# Altium footprint library Transistors.PcbLib: 6 footprints
Each footprint in its own frame and in the unit in brackets; x right, y up, seen from the top. Pads: shape width x height; smd on the part's side, far side on the other; paste and mask are expansions set on the pad; w line width, h text height; cw(c..) or ccw(c..) is an arc to the next point about the centre after c.
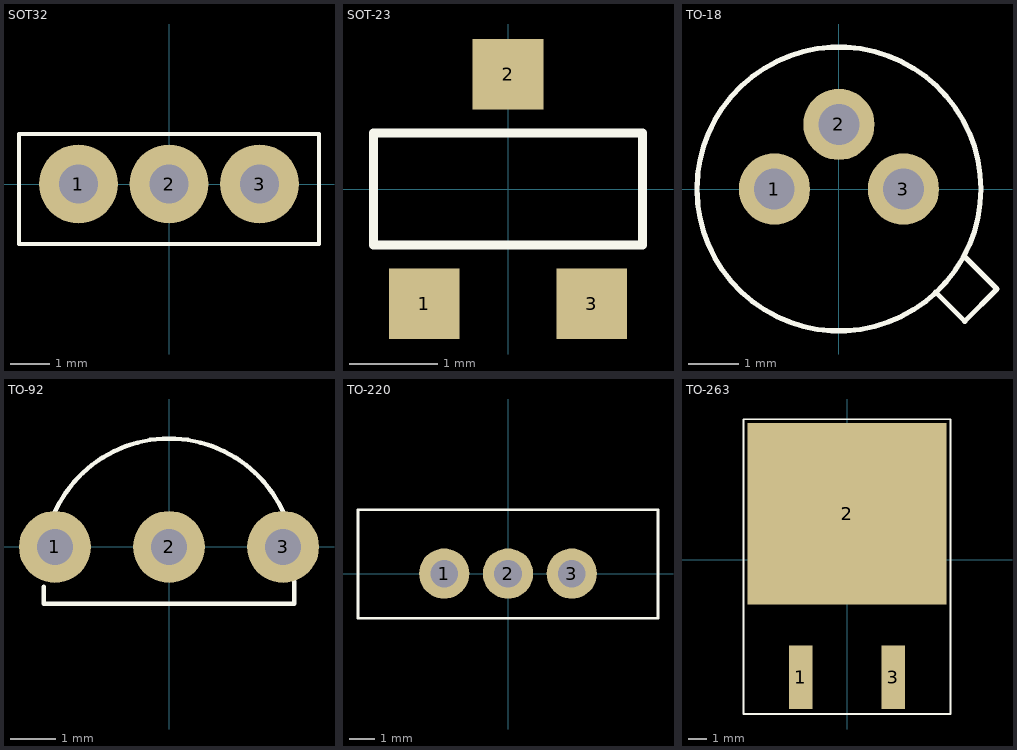
[diagram p0: the footprints below, top view; thin cyan lines are the x and y axes]

## SOT32 [mm] "SOT32"
pads (3):
  round 2 hole 1 mask+0.05: 1(-2.3,0) 2(0,0) 3(2.3,0)
Top Overlay:
  lines w0.1: -3.81,-1.524 -3.81,1.016 -3.81,1.27 3.81,1.27 3.81,1.143 3.81,-1.524 -3.81,-1.524
  text "." at -1.906,1.397 h4
3D body "TO-126 (SOT32).step": height 13.19, standoff -3.54, extent -3.8,-1.55 3.8,1

## SOT-23 [mm] "SOT-23"
pads (3):
  rect 0.8x0.8 smd mask+0.05: 1(-0.95,-1.3) 2(0,1.3) 3(0.95,-1.3)
Top Overlay:
  lines w0.1: -1.524,-0.635 1.524,-0.635 1.524,0.635 -1.524,0.635 -1.524,-0.635
3D body "SOT23-3.stp": height 1.2, standoff 0.02, extent -1.5,-1.418 1.5,1.418

## TO-18 [mm] "TO-18"
pads (3):
  round 1.4 hole 0.8: 1(-1.27,0) 2(0,1.27) 3(1.27,0)
Top Overlay:
  lines w0.1: 1.905,-2.032 2.476,-2.603 3.111,-1.968 2.463,-1.32 ; -2.794,0 cw(c0,0) 2.794,0 cw(c0,0) -2.794,0
3D body "TO-18.STEP": height 5, standoff -2.6, extent -2.743,-3.016 3.048,2.762

## TO-92 [mm] "TO-92"
pads (3):
  round 1.6 hole 0.8: 1(-2.54,0) 2(0,0) 3(2.54,0)
Top Overlay:
  lines w0.1: -2.794,-0.889 -2.794,-1.27 2.794,-1.27 2.794,-0.762 ; -2.794,-0.381 cw(c0,-0.381) 2.794,-0.381
3D body "TO-92.stp": height 8.58, standoff -3, extent -2.77,-1.21 2.77,2.35

## TO-220 [mm] "TO-220"
pads (3):
  round 2 hole 1.1 mask+0.05: 1(-2.54,0) 2(0,0) 3(2.54,0)
Top Overlay:
  lines w0.1: -5.969,-1.778 5.969,-1.778 5.969,2.54 5.08,2.54 -5.969,2.54 -5.969,-1.143 -5.969,-1.778
  text "." at -4.065,2.667 h4
3D body "TO-220 3pins short V1.stp": height 19.11, standoff -3, extent -5.915,-1.819 5.969,2.581

## TO-263 [mm] "TO-263"
pads (3):
  rect 1.3x3.5 smd mask+0.05: 1(-2.54,-6.477) 3(2.54,-6.477)
  rect 11x10 smd mask+0.05: 2(0,2.54)
Top Overlay:
  lines w0.1: -5.715,-8.509 -5.715,7.747 5.715,7.747 5.715,-8.509 -5.715,-8.509
3D body "D2PACK.stp": height 4.45, standoff 0, extent -5.2,-8 5.2,7.2